# Altium footprint library 8路抢答器电路设计.PcbLib: 10 footprints
Each footprint in its own frame and in the unit in brackets; x right, y up, seen from the top. Pads: shape width x height; smd on the part's side, far side on the other; paste and mask are expansions set on the pad; w line width, h text height; cw(c..) or ccw(c..) is an arc to the next point about the centre after c.
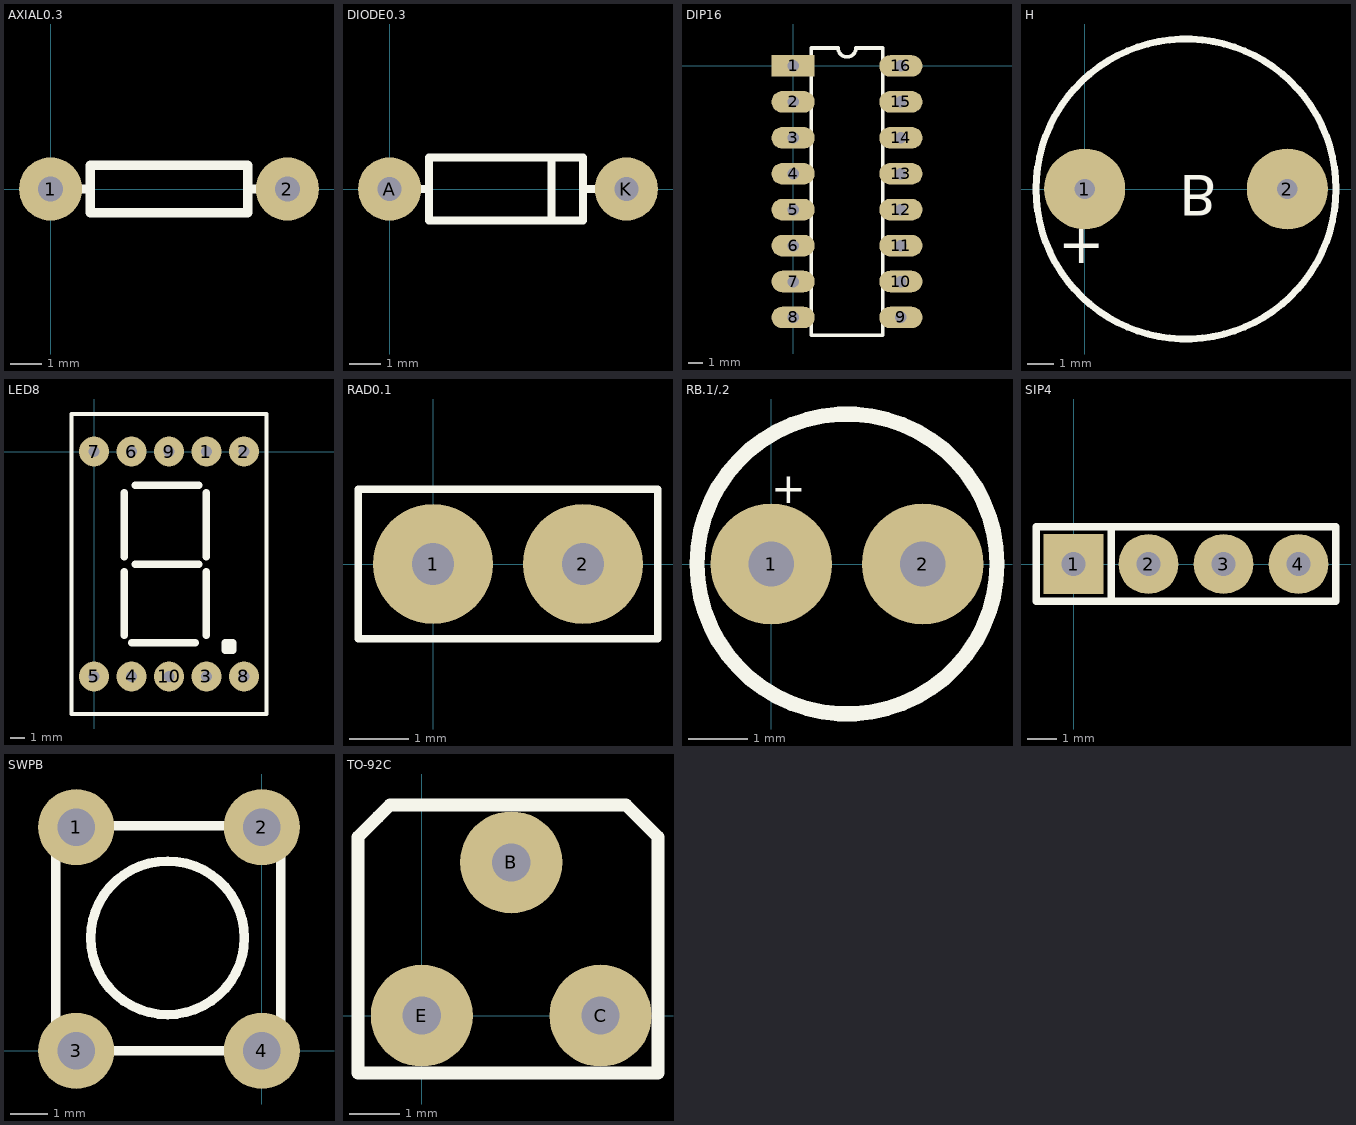
[diagram p0: the footprints below, top view; thin cyan lines are the x and y axes]

## AXIAL0.3 [mil]
pads (2):
  round 80 hole 32: 1(0,0) 2(300,0)
Top Overlay:
  lines w12: 41,0 50,0 ; 259,0 250,0 ; 250,0 250,-30 50,-30 50,30 250,30 250,0

## DIODE0.3 [mil]
pads (2):
  round 80 hole 30: A(0,0) K(300,0)
Top Overlay:
  lines w10: 0,0 50,0 ; 140,-40 245,-40 245,0 245,40 150,40 50,40 50,0 ; 150,-40 50,-40 50,0 ; 205,-40 205,40 ; 250,0 300,0

## DIP16 [mil]
pads (16):
  rect 120x60 hole 32: 1(0,0)
  oval 120x60 hole 32: 2(0,-100) 3(0,-200) 4(0,-300) 5(0,-400) 6(0,-500) 7(0,-600) 8(0,-700) 9(300,-700) 10(300,-600) 11(300,-500) 12(300,-400) 13(300,-300) 14(300,-200) 15(300,-100) 16(300,0)
Top Overlay:
  lines w10: 50,-750 50,50 125,50 ccw(c150,50) 175,50 250,50 250,-750 50,-750

## H [mil]
pads (2):
  round 120 hole 30: 1(0,0) 2(300,0)
Top Overlay:
  circle w10: c150,0 r222.04
  text "+" at 30,-110 h60
  text "B" at 140,20 h60

## LED8 [mil]
pads (10):
  round 80 hole 30: 1(300,0) 2(400,0) 3(300,-600) 4(100,-600) 5(0,-600) 6(100,0) 7(0,0) 8(400,-600) 9(200,0) 10(200,-600)
Top Overlay:
  lines w10: -60,-700 -60,100 390,100 460,100 460,-700 -60,-700
  lines w20: 80,-490 80,-320 ; 80,-280 80,-110 ; 100,-510 270,-510 ; 110,-300 280,-300 ; 110,-90 280,-90 ; 300,-490 300,-320 ; 300,-280 300,-110 ; 350,-530 350,-510 370,-510 370,-530 350,-530

## RAD0.1 [mil]
pads (2):
  round 80 hole 28: 1(0,0) 2(100,0)
Top Overlay:
  lines w5: -50,-50 150,-50 150,50 -50,50 -50,-50

## RB.1/.2 [mil]
pads (2):
  round 80 hole 30: 1(0,0) 2(100,0)
Top Overlay:
  circle w10: c50,0 r99
  text "+" at 0,40 h20

## SIP4 [mil]
pads (4):
  rect 80x80 hole 32: 1(0,0)
  round 80 hole 32: 2(100,0) 3(200,0) 4(300,0)
Top Overlay:
  lines w10: 50,-50 50,50 ; -50,-50 -50,50 350,50 350,-50 -50,-50

## SWPB [mil]
pads (4):
  round 80 hole 39.37: 1(-195,235) 2(0,235) 3(-195,0) 4(0,0)
Top Overlay:
  circle w10: c-99.06,118.74 r80.62
  lines w10: -216.53,0 19.68,0 19.68,236.22 -216.53,236.22 -216.53,0

## TO-92C [mil]
pads (3):
  round 80 hole 30: B(70,120) C(140,0) E(0,0)
Top Overlay:
  lines w10: -34.37,155.63 -50,140 ; -50,140 -50,-45 -40,-45 185,-45 185,140 160,165 -25,165 -50,140